# Altium schematic symbol library Crystal SMD.SchLib: 1 symbol
Pins are listed as number, name and electrical type; pins without a type are passive.

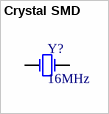
[diagram p0: symbol Crystal SMD]

## Crystal SMD
designator Y?, comment 16MHz
Crystal SMD
footprint Crystal SMD
pins: 1 OSC1, 2 OSC2